# Altium footprint library WCH沁恒.pcblib: 132 footprints (part 6 of 9)
Each footprint in its own frame and in the unit in brackets; x right, y up, seen from the top. Pads: shape width x height; smd on the part's side, far side on the other; paste and mask are expansions set on the pad; w line width, h text height; cw(c..) or ccw(c..) is an arc to the next point about the centre after c.
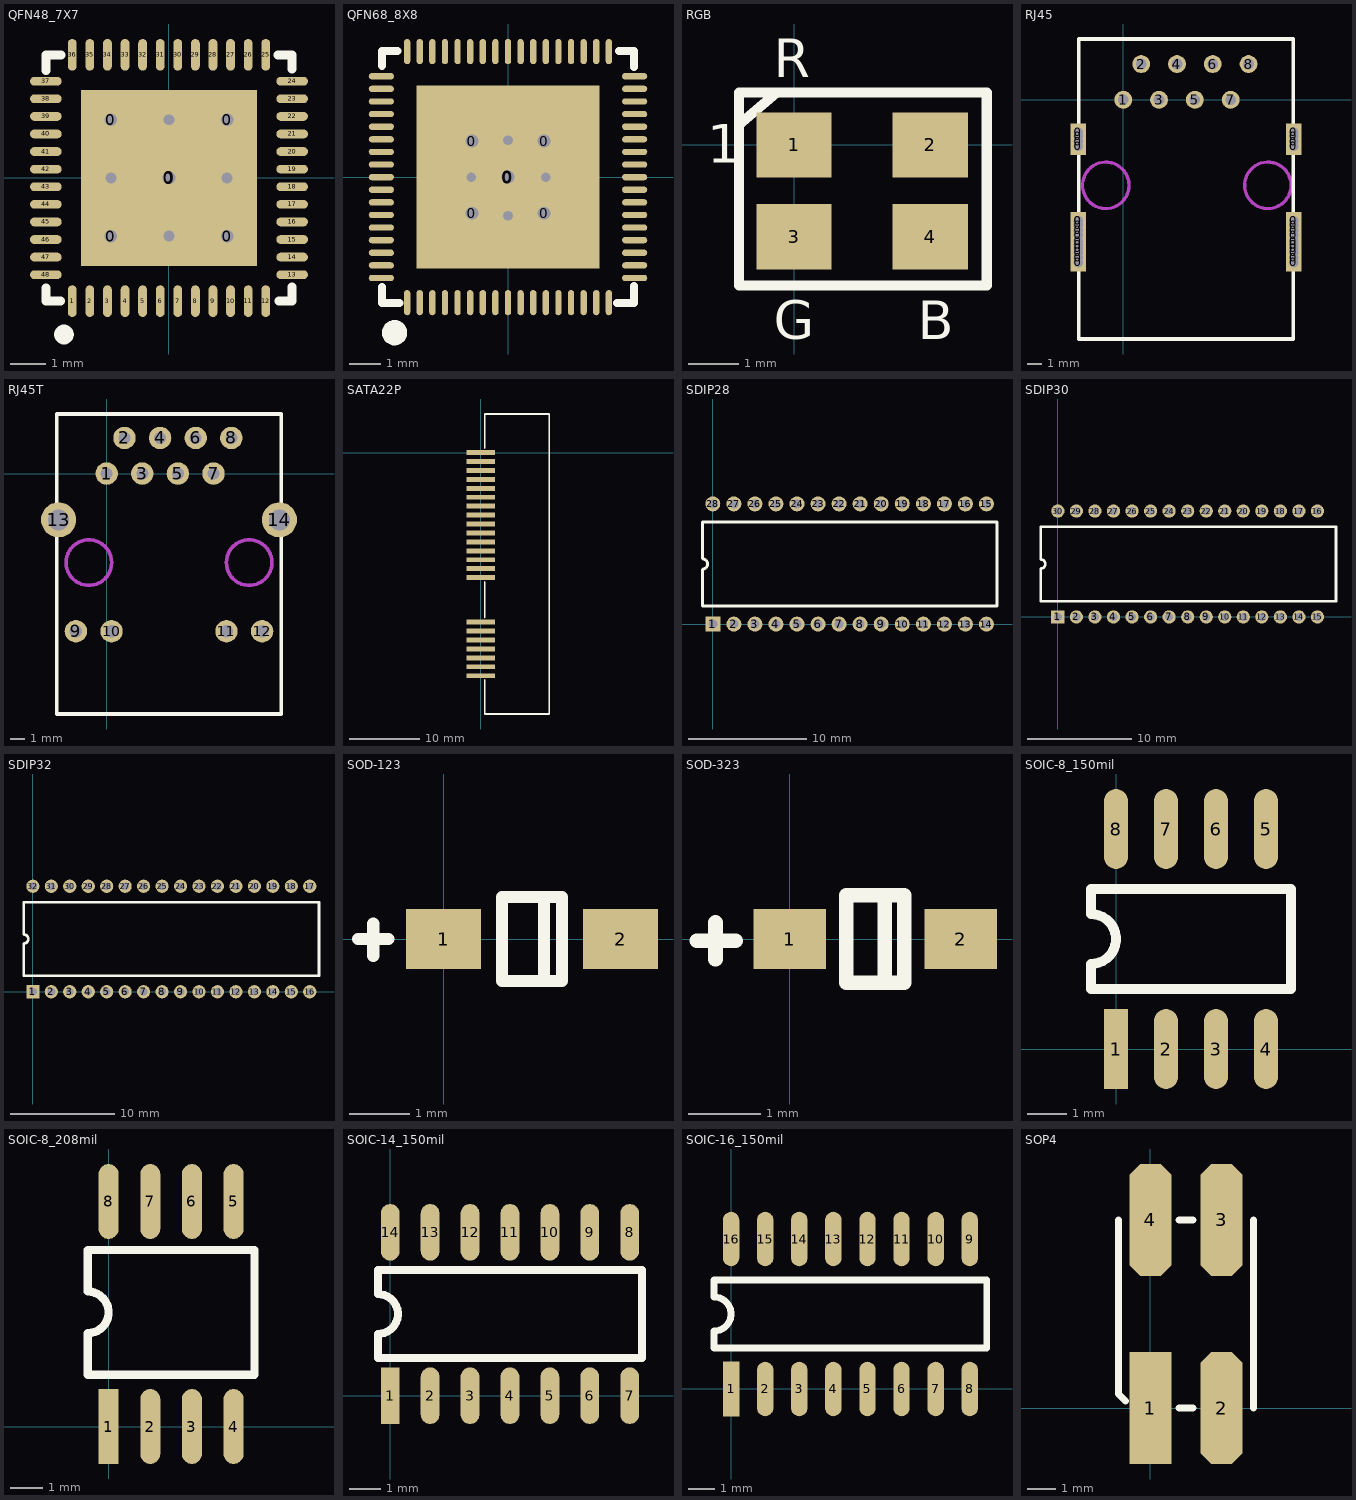
[diagram p5: the footprints below, top view; thin cyan lines are the x and y axes]

## QFN48_7X7 [mm]
pads (54):
  round 0.559 hole 0.356 mask+0.102: 0(-1.651,-1.651) 0(-1.651,1.651) 0(0,0) 0(1.651,-1.651) 0(1.651,1.651)
  rect 5x5 smd mask+0.102: 0(0,0)
  oval 0.25x0.9 smd mask+0.102: 1(-2.75,-3.5) 2(-2.25,-3.5) 3(-1.75,-3.5) 4(-1.25,-3.5) 5(-0.75,-3.5) 6(-0.25,-3.5) 7(0.25,-3.5) 8(0.75,-3.5) 9(1.25,-3.5) 10(1.75,-3.5) 11(2.25,-3.5) 12(2.75,-3.5) 25(2.75,3.5) 26(2.25,3.5) 27(1.75,3.5) 28(1.25,3.5) 29(0.75,3.5) 30(0.25,3.5) 31(-0.25,3.5) 32(-0.75,3.5) 33(-1.25,3.5) 34(-1.75,3.5) 35(-2.25,3.5) 36(-2.75,3.5)
  oval 0.9x0.25 smd mask+0.102: 13(3.5,-2.75) 14(3.5,-2.25) 15(3.5,-1.75) 16(3.5,-1.25) 17(3.5,-0.75) 18(3.5,-0.25) 19(3.5,0.25) 20(3.5,0.75) 21(3.5,1.25) 22(3.5,1.75) 23(3.5,2.25) 24(3.5,2.75) 37(-3.5,2.75) 38(-3.5,2.25) 39(-3.5,1.75) 40(-3.5,1.25) 41(-3.5,0.75) 42(-3.5,0.25) 43(-3.5,-0.25) 44(-3.5,-0.75) 45(-3.5,-1.25) 46(-3.5,-1.75) 47(-3.5,-2.25) 48(-3.5,-2.75)
via -1.651,0 diameter 0.61 hole 0.305
via 0,1.651 diameter 0.61 hole 0.305
via 1.651,0 diameter 0.61 hole 0.305
via 0,-1.651 diameter 0.61 hole 0.305
TopOverlay:
  circle w0.305: c-2.986,-4.451 r0.127
  lines w0.254: -3.5,-3.128 -3.5,-3.5 -3.082,-3.5 ; -3.5,3.057 -3.5,3.5 -3.066,3.5 ; 3.099,3.5 3.5,3.5 3.5,3.096 ; 3.126,-3.5 3.5,-3.5 3.5,-3.104

## QFN68_8X8 [mm]
pads (74):
  round 0.559 hole 0.406: 0(-1.143,-1.143) 0(-1.143,1.143) 0(0,0) 0(1.143,-1.143) 0(1.143,1.143)
  rect 5.8x5.8 smd: 0(0,0)
  oval 0.2x0.8 smd: 1(-3.2,-3.982) 2(-2.8,-3.982) 3(-2.4,-3.982) 4(-2,-3.982) 5(-1.6,-3.982) 6(-1.2,-3.982) 7(-0.8,-3.982) 8(-0.4,-3.982) 9(0,-3.982) 10(0.4,-3.982) 11(0.8,-3.982) 12(1.2,-3.982) 13(1.6,-3.982) 14(2,-3.982) 15(2.4,-3.982) 16(2.8,-3.982) 17(3.2,-3.982) 35(3.2,3.982) 36(2.8,3.982) 37(2.4,3.982) 38(2,3.982) 39(1.6,3.982) 40(1.2,3.982) 41(0.8,3.982) 42(0.4,3.982) 43(0,3.982) 44(-0.4,3.982) 45(-0.8,3.982) 46(-1.2,3.982) 47(-1.6,3.982) 48(-2,3.982) 49(-2.4,3.982) 50(-2.8,3.982) 51(-3.2,3.982)
  oval 0.8x0.2 smd: 18(4.018,-3.2) 19(4.018,-2.8) 20(4.018,-2.4) 21(4.018,-2) 22(4.018,-1.6) 23(4.018,-1.2) 24(4.018,-0.8) 25(4.018,-0.4) 26(4.018,0) 27(4.018,0.4) 28(4.018,0.8) 29(4.018,1.2) 30(4.018,1.6) 31(4.018,2) 32(4.018,2.4) 33(4.018,2.8) 34(4.018,3.2) 52(-4.018,3.2) 53(-4.018,2.8) 54(-4.018,2.4) 55(-4.018,2) 56(-4.018,1.6) 57(-4.018,1.2) 58(-4.018,0.8) 59(-4.018,0.4) 60(-4.018,0) 61(-4.018,-0.4) 62(-4.018,-0.8) 63(-4.018,-1.2) 64(-4.018,-1.6) 65(-4.018,-2) 66(-4.018,-2.4) 67(-4.018,-2.8) 68(-4.018,-3.2)
via 0,1.168 diameter 0.61 hole 0.305
via -1.168,0 diameter 0.61 hole 0.305
via 0,-1.219 diameter 0.61 hole 0.305
via 1.194,0 diameter 0.61 hole 0.305
TopOverlay:
  circle w0.4: c-3.599,-4.935 r0.2
  lines w0.254: -4,-3.492 -4,-4 -3.447,-4 ; -4,3.534 -4,4 -3.503,4 ; 3.459,-4 4,-4 4,-3.458 ; 3.517,4 4,4 4,3.498

## RGB [mm]
pads (4):
  rect 1.5x1.3 smd: 1(0,0) 2(2.71,0) 3(0,-1.825) 4(2.71,-1.825)
TopOverlay:
  lines w0.203: -1.09,0.404 -0.352,1.037 ; -1.092,-2.794 -1.092,1.041 3.835,1.041 3.835,-2.794 -1.092,-2.794
  text "1" at -1.727,-0.356 h0.76
  text "R" at -0.406,1.346 h0.76
  text "G" at -0.406,-3.861 h0.76
  text "B" at 2.464,-3.861 h0.76

## RJ45 [mm]
pads (37):
  rect 1.1x1.27 hole 0.701: 0(-3.2,-11.541) 0(-3.2,-11.212) 0(-3.2,-10.831) 0(-3.2,-10.541) 0(-3.2,-10.287) 0(-3.2,-10.033) 0(-3.2,-9.6) 0(-3.2,-9.271) 0(-3.2,-8.89) 0(-3.2,-8.6) 0(-3.2,-8.6) 0(-3.2,-3.3) 0(-3.2,-2.971) 0(-3.2,-2.59) 0(-3.2,-2.3) 0(12.1,-11.541) 0(12.1,-11.212) 0(12.1,-10.831) 0(12.1,-10.541) 0(12.1,-10.287) 0(12.1,-10.033) 0(12.1,-9.6) 0(12.1,-9.271) 0(12.1,-8.89) 0(12.1,-8.6) 0(12.1,-3.3) 0(12.1,-2.971) 0(12.1,-2.59) 0(12.1,-2.3)
  round 1.27 hole 0.762: 1(0,0) 2(1.27,2.54) 3(2.54,0) 4(3.81,2.54) 5(5.08,0) 6(6.35,2.54) 7(7.62,0) 8(8.89,2.54)
TopOverlay:
  lines w0.254: 12.065,-13.335 12.065,4.318 ; 12.065,4.318 12.065,-16.982 -3.175,-16.982 -3.175,4.318 12.065,4.318
KeepOutLayer:
  circle w0.229: c-1.245,-6.071 r1.651
  circle w0.229: c10.262,-6.071 r1.651
Mechanical1:
  circle w0.229: c-1.245,-6.071 r1.651
  circle w0.229: c10.262,-6.071 r1.651

## RJ45T [mm]
pads (14):
  round 1.6 hole 0.85: 1(0,0) 2(1.27,2.54) 3(2.54,0) 4(3.81,2.54) 5(5.08,0) 6(6.35,2.54) 7(7.62,0) 8(8.89,2.54)
  round 1.6 hole 0.9: 9(-2.195,-11.25) 10(0.345,-11.25) 11(8.545,-11.25) 12(11.085,-11.25)
  round 2.5 hole 1.5: 13(-3.43,-3.3) 14(12.32,-3.3)
TopOverlay:
  lines w0.254: -3.555,-17.15 12.445,-17.15 12.445,4.25 -3.555,4.25 -3.555,-17.15
KeepOutLayer:
  circle w0.254: c-1.27,-6.35 r1.625
  circle w0.254: c10.16,-6.35 r1.625
Mechanical1:
  circle w0.254: c-1.27,-6.35 r1.625
  circle w0.254: c10.16,-6.35 r1.625

## SATA22P [mm]
pads (22):
  rect 4x0.7 smd: 1(0,0) 2(0,-1.27) 3(0,-2.54) 4(0,-3.81) 5(0,-5.08) 6(0,-6.35) 7(0,-7.62) 8(0,-8.89) 9(0,-10.16) 10(0,-11.43) 11(0,-12.7) 12(0,-13.97) 13(0,-15.24) 14(0,-16.51) 15(0,-17.78) 16(0,-24.13) 17(0,-25.4) 18(0,-26.67) 19(0,-27.94) 20(0,-29.21) 21(0,-30.48) 22(0,-31.75)
TopOverlay:
  lines w0.254: 0.551,-32.376 0.551,-37.2 9.751,-37.2 9.751,5.5 0.551,5.5 0.551,0.676 ; 0.551,-23.5 0.551,-18.425

## SDIP28 [mil]
pads (28):
  rect 50x50 hole 30: 1(0,0)
  round 50 hole 30: 2(70,0) 3(140,0) 4(210,0) 5(280,0) 6(350,0) 7(420,0) 8(490,0) 9(560,0) 10(630,0) 11(700,0) 12(770,0) 13(840,0) 14(910,0) 15(910,400) 16(840,400) 17(770,400) 18(700,400) 19(630,400) 20(560,400) 21(490,400) 22(420,400) 23(350,400) 24(280,400) 25(210,400) 26(140,400) 27(70,400) 28(0,400)
TopOverlay:
  lines w10: -35,60 945,60 945,340 -35,340 -35,217.5 cw(c-35,200) -35,182.5 -35,60

## SDIP30 [mil]
pads (30):
  rect 50x50 hole 30: 1(0,0)
  round 50 hole 30: 2(70,0) 3(140,0) 4(210,0) 5(280,0) 6(350,0) 7(420,0) 8(490,0) 9(560,0) 10(630,0) 11(700,0) 12(770,0) 13(840,0) 14(910,0) 15(980,0) 16(980,400) 17(910,400) 18(840,400) 19(770,400) 20(700,400) 21(630,400) 22(560,400) 23(490,400) 24(420,400) 25(350,400) 26(280,400) 27(210,400) 28(140,400) 29(70,400) 30(0,400)
TopOverlay:
  lines w10: -65,60 -65,182.5 ccw(c-65,200) -65,217.5 -65,340 1050,340 1050,60 -65,60

## SDIP32 [mil]
pads (32):
  rect 50x50 hole 30: 1(0,0)
  round 50 hole 30: 2(70,0) 3(140,0) 4(210,0) 5(280,0) 6(350,0) 7(420,0) 8(490,0) 9(560,0) 10(630,0) 11(700,0) 12(770,0) 13(840,0) 14(910,0) 15(980,0) 16(1050,0) 17(1050,400) 18(980,400) 19(910,400) 20(840,400) 21(770,400) 22(700,400) 23(630,400) 24(560,400) 25(490,400) 26(420,400) 27(350,400) 28(280,400) 29(210,400) 30(140,400) 31(70,400) 32(0,400)
TopOverlay:
  lines w10: -35,60 1085,60 1085,340 -35,340 -35,217.5 cw(c-35,200) -35,182.5 -35,60

## SOD-123 [mm]
pads (2):
  rect 1.25x1 smd: 1(0,0) 2(2.95,0)
TopOverlay:
  lines w0.2: 1.675,-0.7 1.675,0.7 ; 0.975,-0.7 1.975,-0.7 1.975,0.7 0.975,0.7 0.975,-0.7
  lines w0.203: -1.43,0 -0.922,0 ; -1.176,-0.279 -1.176,0.254

## SOD-323 [mm]
pads (2):
  rect 1x0.83 smd: 1(0,0) 2(2.36,0)
TopOverlay:
  lines w0.2: 1.31,-0.6 1.31,0.6 ; 0.78,-0.6 1.58,-0.6 1.58,0.6 0.78,0.6 0.78,-0.6
  lines w0.203: -1.278,-0.025 -0.744,-0.025 ; -1.024,-0.279 -1.024,0.229

## SOIC-8_150mil [mil]
pads (8):
  rect 24x80 smd: 1(0,0)
  oval 24x80 smd: 2(50,0) 3(100,0) 4(150,0) 5(150,220) 6(100,220) 7(50,220) 8(0,220)
TopOverlay:
  lines w10: -25,60 175,60 175,160 -25,160 -25,135 cw(c-25,110) -25,85 -25,60

## SOIC-8_208mil [mil]
pads (8):
  rect 24x90 smd: 1(0,0)
  oval 24x90 smd: 2(50,0) 3(100,0) 4(150,0) 5(150,270) 6(100,270) 7(50,270) 8(0,270)
TopOverlay:
  lines w10: -25,62.2 -25,112.01 ccw(c-25,137.01) -25,162.01 -25,211.81 175,211.81 175,62.2 -25,62.2

## SOIC-14_150mil [mm]
pads (14):
  rect 0.6x1.8 smd: 1(0,0)
  oval 0.6x1.8 smd: 2(1.27,0) 3(2.54,0) 4(3.81,0) 5(5.08,0) 6(6.35,0) 7(7.62,0) 8(7.62,5.2) 9(6.35,5.2) 10(5.08,5.2) 11(3.81,5.2) 12(2.54,5.2) 13(1.27,5.2) 14(0,5.2)
TopOverlay:
  lines w0.254: -0.39,1.2 -0.39,1.965 ccw(c-0.39,2.6) -0.39,3.235 -0.39,4 8.01,4 8.01,1.2 -0.39,1.2

## SOIC-16_150mil [mil]
pads (16):
  rect 24x80 smd: 1(0,0)
  oval 24x80 smd: 2(50,0) 3(100,0) 4(150,0) 5(200,0) 6(250,0) 7(300,0) 8(350,0) 9(350,220) 10(300,220) 11(250,220) 12(200,220) 13(150,220) 14(100,220) 15(50,220) 16(0,220)
TopOverlay:
  lines w10: -25,60 -25,85 ccw(c-25,110) -25,135 -25,160 375,160 375,60 -25,60

## SOP4 [mm]
pads (4):
  rect 1.5x4 smd: 1(0,0)
  oct 1.5x4 smd: 2(2.54,0) 3(2.54,6.726) 4(0,6.726)
TopOverlay:
  lines w0.254: -1.143,6.731 -1.143,0.508 -0.889,0.254 ; 1.016,0 1.524,0 ; 1.016,6.731 1.524,6.731 ; 3.683,0 3.683,6.731